# Altium footprint library dish_controller.PcbLib: 9 footprints
Each footprint in its own frame and in the unit in brackets; x right, y up, seen from the top. Pads: shape width x height; smd on the part's side, far side on the other; paste and mask are expansions set on the pad; w line width, h text height; cw(c..) or ccw(c..) is an arc to the next point about the centre after c.
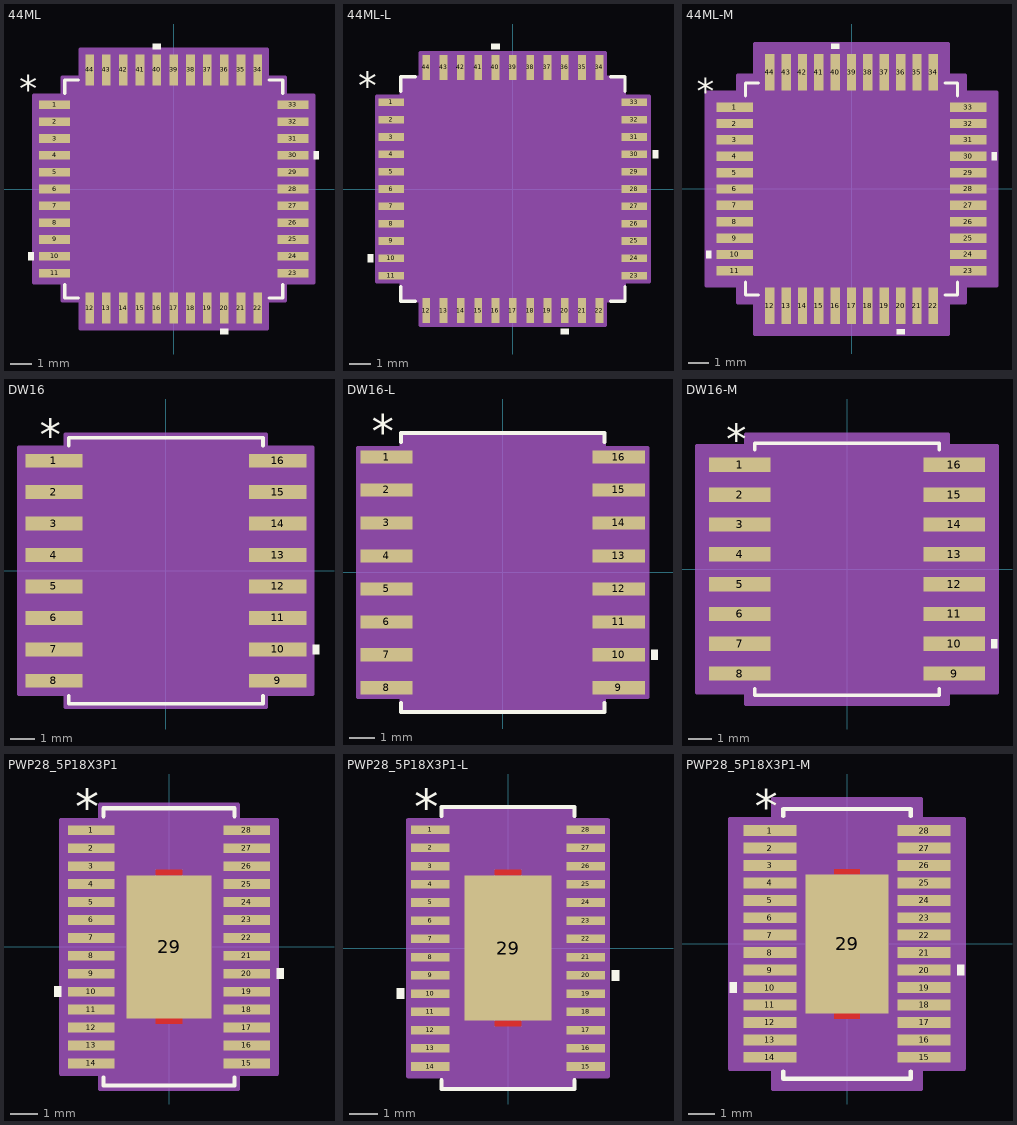
[diagram p0: the footprints below, top view; thin cyan lines are the x and y axes]

## 44ML [mil]
pads (44):
  rect 58x16 smd paste+0 mask+0: 1(-223,157.48) 2(-223,125.98) 3(-223,94.49) 4(-223,62.99) 5(-223,31.5) 6(-223,0) 7(-223,-31.5) 8(-223,-62.99) 9(-223,-94.49) 10(-223,-125.98) 11(-223,-157.48) 23(223,-157.48) 24(223,-125.98) 25(223,-94.49) 26(223,-62.99) 27(223,-31.5) 28(223,0) 29(223,31.5) 30(223,62.99) 31(223,94.49) 32(223,125.98) 33(223,157.48)
  rect 16x58 smd paste+0 mask+0: 12(-157.48,-223) 13(-125.98,-223) 14(-94.49,-223) 15(-62.99,-223) 16(-31.5,-223) 17(0,-223) 18(31.5,-223) 19(62.99,-223) 20(94.49,-223) 21(125.98,-223) 22(157.48,-223) 34(157.48,223) 35(125.98,223) 36(94.49,223) 37(62.99,223) 38(31.5,223) 39(0,223) 40(-31.5,223) 41(-62.99,223) 42(-94.49,223) 43(-125.98,223) 44(-157.48,223)
Top Overlay:
  region: -24,262 -39,262 -39,272 -24,272
  region: 262,70.49 272,70.49 272,55.49 262,55.49
  region: 101.99,-262 86.99,-262 86.99,-272 101.99,-272
  region: -262,-118.48 -272,-118.48 -272,-133.48 -262,-133.48
  lines w6: -204,-178.58 -204,-204 -178.58,-204 ; -204,178.58 -204,204 -178.58,204 ; 178.58,-204 204,-204 204,-178.58 ; 178.58,204 204,204 204,178.58
  text "*" at -289.5,163.23 h50
Mechanical 13:
  drawing of 181 lines, arcs and shapes, not listed
  text "*" at -196.5,148.23 h50
Mechanical 15:
  region: -175.48,-209 -209,-209 -209,-175.48 -262,-175.48 -262,175.48 -209,175.48 -209,209 -175.48,209 -175.48,262 175.48,262 175.48,209 209,209 209,175.48 262,175.48 262,-175.48 209,-175.48 209,-209 175.48,-209 175.48,-262 -175.48,-262
  lines w6: -262,-175.48 -262,175.48 -209,175.48 -209,209 -175.48,209 -175.48,262 175.48,262 175.48,209 209,209 209,175.48 262,175.48 262,-175.48 209,-175.48 209,-209 175.48,-209 175.48,-262 -175.48,-262 -175.48,-209 -209,-209 -209,-175.48 -262,-175.48
3D body "44ML.stp": height 63.11, standoff 0, extent -237.99,-237.99 237.99,237.99
3D body: height 10, standoff 0, extent 0,0 10,10

## 44ML-L [mil]
pads (44):
  rect 46x14 smd paste+0 mask+0: 1(-221,157.48) 2(-221,125.98) 3(-221,94.49) 4(-221,62.99) 5(-221,31.5) 6(-221,0) 7(-221,-31.5) 8(-221,-62.99) 9(-221,-94.49) 10(-221,-125.98) 11(-221,-157.48) 23(221,-157.48) 24(221,-125.98) 25(221,-94.49) 26(221,-62.99) 27(221,-31.5) 28(221,0) 29(221,31.5) 30(221,62.99) 31(221,94.49) 32(221,125.98) 33(221,157.48)
  rect 14x46 smd paste+0 mask+0: 12(-157.48,-221) 13(-125.98,-221) 14(-94.49,-221) 15(-62.99,-221) 16(-31.5,-221) 17(0,-221) 18(31.5,-221) 19(62.99,-221) 20(94.49,-221) 21(125.98,-221) 22(157.48,-221) 34(157.48,221) 35(125.98,221) 36(94.49,221) 37(62.99,221) 38(31.5,221) 39(0,221) 40(-31.5,221) 41(-62.99,221) 42(-94.49,221) 43(-125.98,221) 44(-157.48,221)
Top Overlay:
  region: -24,254 -39,254 -39,264 -24,264
  region: 254,70.49 264,70.49 264,55.49 254,55.49
  region: 101.99,-254 86.99,-254 86.99,-264 101.99,-264
  region: -254,-118.48 -264,-118.48 -264,-133.48 -254,-133.48
  lines w6: -204,-177.58 -204,-204 -177.58,-204 ; -204,177.58 -204,204 -177.58,204 ; 177.58,-204 204,-204 204,-177.58 ; 177.58,204 204,204 204,177.58
  text "*" at -281.5,163.23 h50
Mechanical 13:
  drawing of 181 lines, arcs and shapes, not listed
  text "*" at -196.5,148.23 h50
Mechanical 15:
  region: -168.48,-203 -203,-203 -203,-168.48 -248,-168.48 -248,168.48 -203,168.48 -203,203 -168.48,203 -168.48,248 168.48,248 168.48,203 203,203 203,168.48 248,168.48 248,-168.48 203,-168.48 203,-203 168.48,-203 168.48,-248 -168.48,-248
  lines w6: -248,-168.48 -248,168.48 -203,168.48 -203,203 -168.48,203 -168.48,248 168.48,248 168.48,203 203,203 203,168.48 248,168.48 248,-168.48 203,-168.48 203,-203 168.48,-203 168.48,-248 -168.48,-248 -168.48,-203 -203,-203 -203,-168.48 -248,-168.48
3D body "44ML-L.stp": height 63.11, standoff 0, extent -237.99,-237.99 237.99,238
3D body: height 10, standoff 0, extent 0,0 10,10

## 44ML-M [mil]
pads (44):
  rect 70x18 smd paste+0 mask+0: 1(-225,157.48) 2(-225,125.98) 3(-225,94.49) 4(-225,62.99) 5(-225,31.5) 6(-225,0) 7(-225,-31.5) 8(-225,-62.99) 9(-225,-94.49) 10(-225,-125.98) 11(-225,-157.48) 23(225,-157.48) 24(225,-125.98) 25(225,-94.49) 26(225,-62.99) 27(225,-31.5) 28(225,0) 29(225,31.5) 30(225,62.99) 31(225,94.49) 32(225,125.98) 33(225,157.48)
  rect 18x70 smd paste+0 mask+0: 12(-157.48,-225) 13(-125.98,-225) 14(-94.49,-225) 15(-62.99,-225) 16(-31.5,-225) 17(0,-225) 18(31.5,-225) 19(62.99,-225) 20(94.49,-225) 21(125.98,-225) 22(157.48,-225) 34(157.48,225) 35(125.98,225) 36(94.49,225) 37(62.99,225) 38(31.5,225) 39(0,225) 40(-31.5,225) 41(-62.99,225) 42(-94.49,225) 43(-125.98,225) 44(-157.48,225)
Top Overlay:
  region: -270,-118.48 -280,-118.48 -280,-133.48 -270,-133.48
  region: 101.99,-270 86.99,-270 86.99,-280 101.99,-280
  region: 270,70.49 280,70.49 280,55.49 270,55.49
  region: -24,270 -39,270 -39,280 -24,280
  lines w6: -204,-179.58 -204,-204 -179.58,-204 ; -204,179.58 -204,204 -179.58,204 ; 179.58,-204 204,-204 204,-179.58 ; 179.58,204 204,204 204,179.58
  text "*" at -297.5,163.23 h50
Mechanical 13:
  drawing of 181 lines, arcs and shapes, not listed
  text "*" at -196.5,148.23 h50
Mechanical 15:
  region: -186.48,-219 -219,-219 -219,-186.48 -280,-186.48 -280,186.48 -219,186.48 -219,219 -186.48,219 -186.48,280 186.48,280 186.48,219 219,219 219,186.48 280,186.48 280,-186.48 219,-186.48 219,-219 186.48,-219 186.48,-280 -186.48,-280
  lines w6: -280,-186.48 -219,-186.48 -219,-219 -186.48,-219 -186.48,-280 186.48,-280 186.48,-219 219,-219 219,-186.48 280,-186.48 280,186.48 219,186.48 219,219 186.48,219 186.48,280 -186.48,280 -186.48,219 -219,219 -219,186.48 -280,186.48 -280,-186.48
3D body: height 10, standoff 0, extent 0,0 10,10
3D body "44ML-M.stp": height 63.11, standoff 0, extent -237.99,-237.99 237.99,238

## DW16 [mil]
pads (16):
  rect 91x22 smd paste+0 mask+0: 1(-178,175) 2(-178,125) 3(-178,75) 4(-178,25) 5(-178,-25) 6(-178,-75) 7(-178,-125) 8(-178,-175) 9(178,-175) 10(178,-125) 11(178,-75) 12(178,-25) 13(178,25) 14(178,75) 15(178,125) 16(178,175)
Top Overlay:
  region: 233.5,-117.5 243.5,-117.5 243.5,-132.5 233.5,-132.5
  lines w6: -154.5,-199.1 -154.5,-211.5 154.5,-211.5 154.5,-199.1 ; -154.5,199.1 -154.5,211.5 154.5,211.5 154.5,199.1
  text "*" at -200.5,192 h50
Mechanical 13:
  lines w0: -12,206.5 ccw(c0,206.5) 12,206.5
  lines w1: -209.5,-185 -209.5,-165 -149.5,-165 -149.5,-185 -209.5,-185 ; -209.5,-135 -209.5,-115 -149.5,-115 -149.5,-135 -209.5,-135 ; -209.5,-85 -209.5,-65 -149.5,-65 -149.5,-85 -209.5,-85 ; -209.5,-35 -209.5,-15 -149.5,-15 -149.5,-35 -209.5,-35 ; -209.5,15 -209.5,35 -149.5,35 -149.5,15 -209.5,15 ; -209.5,65 -209.5,85 -149.5,85 -149.5,65 -209.5,65 ; -209.5,115 -209.5,135 -149.5,135 -149.5,115 -209.5,115 ; -209.5,165 -209.5,185 -149.5,185 -149.5,165 -209.5,165 ; -149.5,-206.5 149.5,-206.5 149.5,206.5 -149.5,206.5 -149.5,-206.5 ; 149.5,-185 149.5,-165 209.5,-165 209.5,-185 149.5,-185 ; 149.5,-135 149.5,-115 209.5,-115 209.5,-135 149.5,-135 ; 149.5,-85 149.5,-65 209.5,-65 209.5,-85 149.5,-85 ; 149.5,-35 149.5,-15 209.5,-15 209.5,-35 149.5,-35 ; 149.5,15 149.5,35 209.5,35 209.5,15 149.5,15 ; 149.5,65 149.5,85 209.5,85 209.5,65 149.5,65 ; 149.5,115 149.5,135 209.5,135 209.5,115 149.5,115 ; 149.5,165 149.5,185 209.5,185 209.5,165 149.5,165
  text "*" at -147,153.5 h50
Mechanical 15:
  region: -159.5,-196 -233.5,-196 -233.5,196 -159.5,196 -159.5,216.5 159.5,216.5 159.5,196 233.5,196 233.5,-196 159.5,-196 159.5,-216.5 -159.5,-216.5
  lines w6: -233.5,-196 -233.5,196 -159.5,196 -159.5,216.5 159.5,216.5 159.5,196 233.5,196 233.5,-196 159.5,-196 159.5,-216.5 -159.5,-216.5 -159.5,-196 -233.5,-196
3D body "DW16.stp": height 104.09, standoff 0, extent -209.49,-206.5 209.49,206.5
3D body: height 10, standoff 0, extent 0,0 10,10

## DW16-L [mil]
pads (16):
  rect 79x20 smd paste+0 mask+0: 1(-176,175) 2(-176,125) 3(-176,75) 4(-176,25) 5(-176,-25) 6(-176,-75) 7(-176,-125) 8(-176,-175) 9(176,-175) 10(176,-125) 11(176,-75) 12(176,-25) 13(176,25) 14(176,75) 15(176,125) 16(176,175)
Top Overlay:
  region: 225.5,-117.5 235.5,-117.5 235.5,-132.5 225.5,-132.5
  lines w6: -154.5,-198.1 -154.5,-211.5 154.5,-211.5 154.5,-198.1 ; -154.5,198.1 -154.5,211.5 154.5,211.5 154.5,198.1
  text "*" at -198.5,190 h50
Mechanical 13:
  lines w0: -12,206.5 ccw(c0,206.5) 12,206.5
  lines w1: -209.5,-185 -149.5,-185 -149.5,-165 -209.5,-165 -209.5,-185 ; -209.5,-135 -149.5,-135 -149.5,-115 -209.5,-115 -209.5,-135 ; -209.5,-85 -149.5,-85 -149.5,-65 -209.5,-65 -209.5,-85 ; -209.5,-35 -149.5,-35 -149.5,-15 -209.5,-15 -209.5,-35 ; -209.5,15 -149.5,15 -149.5,35 -209.5,35 -209.5,15 ; -209.5,65 -149.5,65 -149.5,85 -209.5,85 -209.5,65 ; -209.5,115 -149.5,115 -149.5,135 -209.5,135 -209.5,115 ; -209.5,165 -149.5,165 -149.5,185 -209.5,185 -209.5,165 ; -149.5,-206.5 -149.5,206.5 149.5,206.5 149.5,-206.5 -149.5,-206.5 ; 149.5,-185 209.5,-185 209.5,-165 149.5,-165 149.5,-185 ; 149.5,-135 209.5,-135 209.5,-115 149.5,-115 149.5,-135 ; 149.5,-85 209.5,-85 209.5,-65 149.5,-65 149.5,-85 ; 149.5,-35 209.5,-35 209.5,-15 149.5,-15 149.5,-35 ; 149.5,15 209.5,15 209.5,35 149.5,35 149.5,15 ; 149.5,65 209.5,65 209.5,85 149.5,85 149.5,65 ; 149.5,115 209.5,115 209.5,135 149.5,135 149.5,115 ; 149.5,165 209.5,165 209.5,185 149.5,185 149.5,165
  text "*" at -147,153.5 h50
Mechanical 15:
  region: -153.5,-189 -219.5,-189 -219.5,189 -153.5,189 -153.5,210.5 153.5,210.5 153.5,189 219.5,189 219.5,-189 153.5,-189 153.5,-210.5 -153.5,-210.5
  lines w6: -219.5,-189 -153.5,-189 -153.5,-210.5 153.5,-210.5 153.5,-189 219.5,-189 219.5,189 153.5,189 153.5,210.5 -153.5,210.5 -153.5,189 -219.5,189 -219.5,-189
3D body "DW16-L.stp": height 104.09, standoff 0, extent -209.49,-206.5 209.49,206.5
3D body: height 10, standoff 0, extent 0,0 10,10

## DW16-M [mil]
pads (16):
  rect 103x24 smd paste+0 mask+0: 1(-180,175) 2(-180,125) 3(-180,75) 4(-180,25) 5(-180,-25) 6(-180,-75) 7(-180,-125) 8(-180,-175) 9(180,-175) 10(180,-125) 11(180,-75) 12(180,-25) 13(180,25) 14(180,75) 15(180,125) 16(180,175)
Top Overlay:
  region: 241.5,-117.5 251.5,-117.5 251.5,-132.5 241.5,-132.5
  lines w6: -154.5,-200.1 -154.5,-211.5 154.5,-211.5 154.5,-200.1 ; -154.5,200.1 -154.5,211.5 154.5,211.5 154.5,200.1
  text "*" at -202.5,194 h50
Mechanical 13:
  lines w0: -12,206.5 ccw(c0,206.5) 12,206.5
  lines w1: -209.5,-185 -209.5,-165 -149.5,-165 -149.5,-185 -209.5,-185 ; -209.5,-135 -209.5,-115 -149.5,-115 -149.5,-135 -209.5,-135 ; -209.5,-85 -209.5,-65 -149.5,-65 -149.5,-85 -209.5,-85 ; -209.5,-35 -209.5,-15 -149.5,-15 -149.5,-35 -209.5,-35 ; -209.5,15 -209.5,35 -149.5,35 -149.5,15 -209.5,15 ; -209.5,65 -209.5,85 -149.5,85 -149.5,65 -209.5,65 ; -209.5,115 -209.5,135 -149.5,135 -149.5,115 -209.5,115 ; -209.5,165 -209.5,185 -149.5,185 -149.5,165 -209.5,165 ; -149.5,-206.5 149.5,-206.5 149.5,206.5 -149.5,206.5 -149.5,-206.5 ; 149.5,-185 149.5,-165 209.5,-165 209.5,-185 149.5,-185 ; 149.5,-135 149.5,-115 209.5,-115 209.5,-135 149.5,-135 ; 149.5,-85 149.5,-65 209.5,-65 209.5,-85 149.5,-85 ; 149.5,-35 149.5,-15 209.5,-15 209.5,-35 149.5,-35 ; 149.5,15 149.5,35 209.5,35 209.5,15 149.5,15 ; 149.5,65 149.5,85 209.5,85 209.5,65 149.5,65 ; 149.5,115 149.5,135 209.5,135 209.5,115 149.5,115 ; 149.5,165 149.5,185 209.5,185 209.5,165 149.5,165
  text "*" at -147,153.5 h50
Mechanical 15:
  region: -169.5,-207 -251.5,-207 -251.5,207 -169.5,207 -169.5,226.5 169.5,226.5 169.5,207 251.5,207 251.5,-207 169.5,-207 169.5,-226.5 -169.5,-226.5
  lines w6: -251.5,-207 -251.5,207 -169.5,207 -169.5,226.5 169.5,226.5 169.5,207 251.5,207 251.5,-207 169.5,-207 169.5,-226.5 -169.5,-226.5 -169.5,-207 -251.5,-207
3D body "DW16-M.stp": height 104.09, standoff 0, extent -209.49,-206.49 209.49,206.5
3D body: height 10, standoff 0, extent 0,0 10,10

## PWP28_5P18X3P1 [mil]
pads (29):
  rect 66x14 smd paste+0 mask+0: 1(-111,166.34) 2(-111,140.75) 3(-111,115.16) 4(-111,89.57) 5(-111,63.98) 6(-111,38.39) 7(-111,12.8) 8(-111,-12.8) 9(-111,-38.39) 10(-111,-63.98) 11(-111,-89.57) 12(-111,-115.16) 13(-111,-140.75) 14(-111,-166.34) 15(111,-166.34) 16(111,-140.75) 17(111,-115.16) 18(111,-89.57) 19(111,-63.98) 20(111,-38.39) 21(111,-12.8) 22(111,12.8) 23(111,38.39) 24(111,63.98) 25(111,89.57) 26(111,115.16) 27(111,140.75) 28(111,166.34)
  rect 122.05x203.94 smd paste+0 mask+0: 29(0,0)
Top Layer:
  region: 18.7,-101.97 -18.7,-101.97 -18.7,-109.84 18.7,-109.84 18.7,-101.97
  region: 18.7,101.97 -18.7,101.97 -18.7,109.84 18.7,109.84 18.7,101.97
Top Overlay:
  region: 154,-30.89 164,-30.89 164,-45.89 154,-45.89
  region: -154,-56.48 -164,-56.48 -164,-71.48 -154,-71.48
  lines w6: -93.5,-186.44 -93.5,-197.91 93.5,-197.91 93.5,-186.44 ; -93.5,186.44 -93.5,197.91 93.5,197.91 93.5,186.44
  text "*" at -133.5,175.34 h50
Top Paste:
  region: 57.09,-54.92 3.94,-54.92 3.94,-98.03 57.09,-98.03
  region: 57.09,-3.94 3.94,-3.94 3.94,-47.05 57.09,-47.05
  region: 57.09,47.05 3.94,47.05 3.94,3.94 57.09,3.94
  region: 57.09,98.03 3.94,98.03 3.94,54.92 57.09,54.92
  region: -3.94,-54.92 -57.09,-54.92 -57.09,-98.03 -3.94,-98.03
  region: -3.94,-3.94 -57.09,-3.94 -57.09,-47.05 -3.94,-47.05
  region: -3.94,47.05 -57.09,47.05 -57.09,3.94 -3.94,3.94
  region: -3.94,98.03 -57.09,98.03 -57.09,54.92 -3.94,54.92
Top Solder:
  region: 18.7,-101.97 -18.7,-101.97 -18.7,-109.84 18.7,-109.84 18.7,-101.97
  region: 18.7,101.97 -18.7,101.97 -18.7,109.84 18.7,109.84 18.7,101.97
Mechanical 13:
  lines w0: -12,192.91 ccw(c0,192.91) 12,192.91
  lines w1: -130,-172.34 -88.5,-172.34 -88.5,-160.34 -130,-160.34 -130,-172.34 ; -130,-146.75 -88.5,-146.75 -88.5,-134.75 -130,-134.75 -130,-146.75 ; -130,-121.16 -88.5,-121.16 -88.5,-109.16 -130,-109.16 -130,-121.16 ; -130,-95.57 -88.5,-95.57 -88.5,-83.57 -130,-83.57 -130,-95.57 ; -130,-69.98 -88.5,-69.98 -88.5,-57.98 -130,-57.98 -130,-69.98 ; -130,-44.39 -88.5,-44.39 -88.5,-32.39 -130,-32.39 -130,-44.39 ; -130,-18.8 -88.5,-18.8 -88.5,-6.8 -130,-6.8 -130,-18.8 ; -130,6.8 -88.5,6.8 -88.5,18.8 -130,18.8 -130,6.8 ; -130,32.39 -88.5,32.39 -88.5,44.39 -130,44.39 -130,32.39 ; -130,57.98 -88.5,57.98 -88.5,69.98 -130,69.98 -130,57.98 ; -130,83.57 -88.5,83.57 -88.5,95.57 -130,95.57 -130,83.57 ; -130,109.16 -88.5,109.16 -88.5,121.16 -130,121.16 -130,109.16 ; -130,134.75 -88.5,134.75 -88.5,146.75 -130,146.75 -130,134.75 ; -130,160.34 -88.5,160.34 -88.5,172.34 -130,172.34 -130,160.34 ; -88.5,-192.91 -88.5,192.91 88.5,192.91 88.5,-192.91 -88.5,-192.91 ; 88.5,-172.34 130,-172.34 130,-160.34 88.5,-160.34 88.5,-172.34 ; 88.5,-146.75 130,-146.75 130,-134.75 88.5,-134.75 88.5,-146.75 ; 88.5,-121.16 130,-121.16 130,-109.16 88.5,-109.16 88.5,-121.16 ; 88.5,-95.57 130,-95.57 130,-83.57 88.5,-83.57 88.5,-95.57 ; 88.5,-69.98 130,-69.98 130,-57.98 88.5,-57.98 88.5,-69.98 ; 88.5,-44.39 130,-44.39 130,-32.39 88.5,-32.39 88.5,-44.39 ; 88.5,-18.8 130,-18.8 130,-6.8 88.5,-6.8 88.5,-18.8 ; 88.5,6.8 130,6.8 130,18.8 88.5,18.8 88.5,6.8 ; 88.5,32.39 130,32.39 130,44.39 88.5,44.39 88.5,32.39 ; 88.5,57.98 130,57.98 130,69.98 88.5,69.98 88.5,57.98 ; 88.5,83.57 130,83.57 130,95.57 88.5,95.57 88.5,83.57 ; 88.5,109.16 130,109.16 130,121.16 88.5,121.16 88.5,109.16 ; 88.5,134.75 130,134.75 130,146.75 88.5,146.75 88.5,134.75 ; 88.5,160.34 130,160.34 130,172.34 88.5,172.34 88.5,160.34
  text "*" at -91,130.34 h50
Mechanical 15:
  region: -98.5,-181.14 -154,-181.14 -154,181.14 -98.5,181.14 -98.5,202.91 98.5,202.91 98.5,181.14 154,181.14 154,-181.14 98.5,-181.14 98.5,-202.91 -98.5,-202.91
  lines w6: -154,-181.14 -98.5,-181.14 -98.5,-202.91 98.5,-202.91 98.5,-181.14 154,-181.14 154,181.14 98.5,181.14 98.5,202.91 -98.5,202.91 -98.5,181.14 -154,181.14 -154,-181.14
3D body "PWP28_5P18X3P1.stp": height 67.09, standoff 0, extent -130,-192.91 130,192.91
3D body: height 10, standoff 0, extent 0,0 10,10

## PWP28_5P18X3P1-L [mil]
pads (29):
  rect 54x12 smd paste+0 mask+0: 1(-109,166.34) 2(-109,140.75) 3(-109,115.16) 4(-109,89.57) 5(-109,63.98) 6(-109,38.39) 7(-109,12.8) 8(-109,-12.8) 9(-109,-38.39) 10(-109,-63.98) 11(-109,-89.57) 12(-109,-115.16) 13(-109,-140.75) 14(-109,-166.34) 15(109,-166.34) 16(109,-140.75) 17(109,-115.16) 18(109,-89.57) 19(109,-63.98) 20(109,-38.39) 21(109,-12.8) 22(109,12.8) 23(109,38.39) 24(109,63.98) 25(109,89.57) 26(109,115.16) 27(109,140.75) 28(109,166.34)
  rect 122.05x203.94 smd paste+0 mask+0: 29(0,0)
Top Layer:
  region: 18.7,101.97 -18.7,101.97 -18.7,109.84 18.7,109.84 18.7,101.97
  region: 18.7,-101.97 -18.7,-101.97 -18.7,-109.84 18.7,-109.84 18.7,-101.97
Top Overlay:
  region: -146,-56.48 -156,-56.48 -156,-71.48 -146,-71.48
  region: 146,-30.89 156,-30.89 156,-45.89 146,-45.89
  lines w6: -93.5,-185.44 -93.5,-197.91 93.5,-197.91 93.5,-185.44 ; -93.5,185.44 -93.5,197.91 93.5,197.91 93.5,185.44
  text "*" at -131.5,173.34 h50
Top Paste:
  region: -3.94,98.03 -57.09,98.03 -57.09,54.92 -3.94,54.92
  region: -3.94,47.05 -57.09,47.05 -57.09,3.94 -3.94,3.94
  region: -3.94,-3.94 -57.09,-3.94 -57.09,-47.05 -3.94,-47.05
  region: -3.94,-54.92 -57.09,-54.92 -57.09,-98.03 -3.94,-98.03
  region: 57.09,98.03 3.94,98.03 3.94,54.92 57.09,54.92
  region: 57.09,47.05 3.94,47.05 3.94,3.94 57.09,3.94
  region: 57.09,-3.94 3.94,-3.94 3.94,-47.05 57.09,-47.05
  region: 57.09,-54.92 3.94,-54.92 3.94,-98.03 57.09,-98.03
Top Solder:
  region: 18.7,101.97 -18.7,101.97 -18.7,109.84 18.7,109.84 18.7,101.97
  region: 18.7,-101.97 -18.7,-101.97 -18.7,-109.84 18.7,-109.84 18.7,-101.97
Mechanical 13:
  lines w0: -12,192.91 ccw(c0,192.91) 12,192.91
  lines w1: -130,-172.34 -130,-160.34 -88.5,-160.34 -88.5,-172.34 -130,-172.34 ; -130,-146.75 -130,-134.75 -88.5,-134.75 -88.5,-146.75 -130,-146.75 ; -130,-121.16 -130,-109.16 -88.5,-109.16 -88.5,-121.16 -130,-121.16 ; -130,-95.57 -130,-83.57 -88.5,-83.57 -88.5,-95.57 -130,-95.57 ; -130,-69.98 -130,-57.98 -88.5,-57.98 -88.5,-69.98 -130,-69.98 ; -130,-44.39 -130,-32.39 -88.5,-32.39 -88.5,-44.39 -130,-44.39 ; -130,-18.8 -130,-6.8 -88.5,-6.8 -88.5,-18.8 -130,-18.8 ; -130,6.8 -130,18.8 -88.5,18.8 -88.5,6.8 -130,6.8 ; -130,32.39 -130,44.39 -88.5,44.39 -88.5,32.39 -130,32.39 ; -130,57.98 -130,69.98 -88.5,69.98 -88.5,57.98 -130,57.98 ; -130,83.57 -130,95.57 -88.5,95.57 -88.5,83.57 -130,83.57 ; -130,109.16 -130,121.16 -88.5,121.16 -88.5,109.16 -130,109.16 ; -130,134.75 -130,146.75 -88.5,146.75 -88.5,134.75 -130,134.75 ; -130,160.34 -130,172.34 -88.5,172.34 -88.5,160.34 -130,160.34 ; -88.5,-192.91 88.5,-192.91 88.5,192.91 -88.5,192.91 -88.5,-192.91 ; 88.5,-172.34 88.5,-160.34 130,-160.34 130,-172.34 88.5,-172.34 ; 88.5,-146.75 88.5,-134.75 130,-134.75 130,-146.75 88.5,-146.75 ; 88.5,-121.16 88.5,-109.16 130,-109.16 130,-121.16 88.5,-121.16 ; 88.5,-95.57 88.5,-83.57 130,-83.57 130,-95.57 88.5,-95.57 ; 88.5,-69.98 88.5,-57.98 130,-57.98 130,-69.98 88.5,-69.98 ; 88.5,-44.39 88.5,-32.39 130,-32.39 130,-44.39 88.5,-44.39 ; 88.5,-18.8 88.5,-6.8 130,-6.8 130,-18.8 88.5,-18.8 ; 88.5,6.8 88.5,18.8 130,18.8 130,6.8 88.5,6.8 ; 88.5,32.39 88.5,44.39 130,44.39 130,32.39 88.5,32.39 ; 88.5,57.98 88.5,69.98 130,69.98 130,57.98 88.5,57.98 ; 88.5,83.57 88.5,95.57 130,95.57 130,83.57 88.5,83.57 ; 88.5,109.16 88.5,121.16 130,121.16 130,109.16 88.5,109.16 ; 88.5,134.75 88.5,146.75 130,146.75 130,134.75 88.5,134.75 ; 88.5,160.34 88.5,172.34 130,172.34 130,160.34 88.5,160.34
  text "*" at -91,128.34 h50
Mechanical 15:
  region: -92.5,-179.94 -140,-179.94 -140,179.94 -92.5,179.94 -92.5,196.91 92.5,196.91 92.5,179.94 140,179.94 140,-179.94 92.5,-179.94 92.5,-196.91 -92.5,-196.91
  lines w6: -140,-179.94 -140,179.94 -92.5,179.94 -92.5,196.91 92.5,196.91 92.5,179.94 140,179.94 140,-179.94 92.5,-179.94 92.5,-196.91 -92.5,-196.91 -92.5,-179.94 -140,-179.94
3D body "PWP28_5P18X3P1-L.stp": height 67.09, standoff 0, extent -130,-192.91 130,192.91
3D body: height 10, standoff 0, extent 0,0 0,0
3D body: height 10, standoff 0, extent 0,0 10,10

## PWP28_5P18X3P1-M [mil]
pads (29):
  rect 78x16 smd paste+0 mask+0: 1(-113,166.34) 2(-113,140.75) 3(-113,115.16) 4(-113,89.57) 5(-113,63.98) 6(-113,38.39) 7(-113,12.8) 8(-113,-12.8) 9(-113,-38.39) 10(-113,-63.98) 11(-113,-89.57) 12(-113,-115.16) 13(-113,-140.75) 14(-113,-166.34) 15(113,-166.34) 16(113,-140.75) 17(113,-115.16) 18(113,-89.57) 19(113,-63.98) 20(113,-38.39) 21(113,-12.8) 22(113,12.8) 23(113,38.39) 24(113,63.98) 25(113,89.57) 26(113,115.16) 27(113,140.75) 28(113,166.34)
  rect 122.05x203.94 smd paste+0 mask+0: 29(0,0)
Top Layer:
  region: 18.7,-101.97 -18.7,-101.97 -18.7,-109.84 18.7,-109.84 18.7,-101.97
  region: 18.7,101.97 -18.7,101.97 -18.7,109.84 18.7,109.84 18.7,101.97
Top Overlay:
  region: 162,-30.89 172,-30.89 172,-45.89 162,-45.89
  region: -162,-56.48 -172,-56.48 -172,-71.48 -162,-71.48
  lines w6: -93.5,-187.44 -93.5,-197.91 93.5,-197.91 93.5,-187.44 ; -93.5,187.44 -93.5,197.91 93.5,197.91 93.5,187.44
  text "*" at -135.5,177.34 h50
Top Paste:
  region: 57.09,-54.92 3.94,-54.92 3.94,-98.03 57.09,-98.03
  region: 57.09,-3.94 3.94,-3.94 3.94,-47.05 57.09,-47.05
  region: 57.09,47.05 3.94,47.05 3.94,3.94 57.09,3.94
  region: 57.09,98.03 3.94,98.03 3.94,54.92 57.09,54.92
  region: -3.94,-54.92 -57.09,-54.92 -57.09,-98.03 -3.94,-98.03
  region: -3.94,-3.94 -57.09,-3.94 -57.09,-47.05 -3.94,-47.05
  region: -3.94,47.05 -57.09,47.05 -57.09,3.94 -3.94,3.94
  region: -3.94,98.03 -57.09,98.03 -57.09,54.92 -3.94,54.92
Top Solder:
  region: 18.7,-101.97 -18.7,-101.97 -18.7,-109.84 18.7,-109.84 18.7,-101.97
  region: 18.7,101.97 -18.7,101.97 -18.7,109.84 18.7,109.84 18.7,101.97
Mechanical 13:
  lines w0: -12,192.91 ccw(c0,192.91) 12,192.91
  lines w1: -130,-172.34 -88.5,-172.34 -88.5,-160.34 -130,-160.34 -130,-172.34 ; -130,-146.75 -88.5,-146.75 -88.5,-134.75 -130,-134.75 -130,-146.75 ; -130,-121.16 -88.5,-121.16 -88.5,-109.16 -130,-109.16 -130,-121.16 ; -130,-95.57 -88.5,-95.57 -88.5,-83.57 -130,-83.57 -130,-95.57 ; -130,-69.98 -88.5,-69.98 -88.5,-57.98 -130,-57.98 -130,-69.98 ; -130,-44.39 -88.5,-44.39 -88.5,-32.39 -130,-32.39 -130,-44.39 ; -130,-18.8 -88.5,-18.8 -88.5,-6.8 -130,-6.8 -130,-18.8 ; -130,6.8 -88.5,6.8 -88.5,18.8 -130,18.8 -130,6.8 ; -130,32.39 -88.5,32.39 -88.5,44.39 -130,44.39 -130,32.39 ; -130,57.98 -88.5,57.98 -88.5,69.98 -130,69.98 -130,57.98 ; -130,83.57 -88.5,83.57 -88.5,95.57 -130,95.57 -130,83.57 ; -130,109.16 -88.5,109.16 -88.5,121.16 -130,121.16 -130,109.16 ; -130,134.75 -88.5,134.75 -88.5,146.75 -130,146.75 -130,134.75 ; -130,160.34 -88.5,160.34 -88.5,172.34 -130,172.34 -130,160.34 ; -88.5,-192.91 -88.5,192.91 88.5,192.91 88.5,-192.91 -88.5,-192.91 ; 88.5,-172.34 130,-172.34 130,-160.34 88.5,-160.34 88.5,-172.34 ; 88.5,-146.75 130,-146.75 130,-134.75 88.5,-134.75 88.5,-146.75 ; 88.5,-121.16 130,-121.16 130,-109.16 88.5,-109.16 88.5,-121.16 ; 88.5,-95.57 130,-95.57 130,-83.57 88.5,-83.57 88.5,-95.57 ; 88.5,-69.98 130,-69.98 130,-57.98 88.5,-57.98 88.5,-69.98 ; 88.5,-44.39 130,-44.39 130,-32.39 88.5,-32.39 88.5,-44.39 ; 88.5,-18.8 130,-18.8 130,-6.8 88.5,-6.8 88.5,-18.8 ; 88.5,6.8 130,6.8 130,18.8 88.5,18.8 88.5,6.8 ; 88.5,32.39 130,32.39 130,44.39 88.5,44.39 88.5,32.39 ; 88.5,57.98 130,57.98 130,69.98 88.5,69.98 88.5,57.98 ; 88.5,83.57 130,83.57 130,95.57 88.5,95.57 88.5,83.57 ; 88.5,109.16 130,109.16 130,121.16 88.5,121.16 88.5,109.16 ; 88.5,134.75 130,134.75 130,146.75 88.5,146.75 88.5,134.75 ; 88.5,160.34 130,160.34 130,172.34 88.5,172.34 88.5,160.34
  text "*" at -91,132.34 h50
Mechanical 15:
  region: -108.5,-183.14 -172,-183.14 -172,183.14 -108.5,183.14 -108.5,212.91 108.5,212.91 108.5,183.14 172,183.14 172,-183.14 108.5,-183.14 108.5,-212.91 -108.5,-212.91
  lines w6: -172,-183.14 -108.5,-183.14 -108.5,-212.91 108.5,-212.91 108.5,-183.14 172,-183.14 172,183.14 108.5,183.14 108.5,212.91 -108.5,212.91 -108.5,183.14 -172,183.14 -172,-183.14
3D body "PWP28_5P18X3P1-M.stp": height 67.09, standoff 0, extent -130,-192.91 130,192.91
3D body: height 10, standoff 0, extent 0,0 10,10